# EAGLE library part PENTABIT_? (library hexabitz_connectors)
Hexabitz Pentagon Module Connector Pentagon side length = 17.32mm.
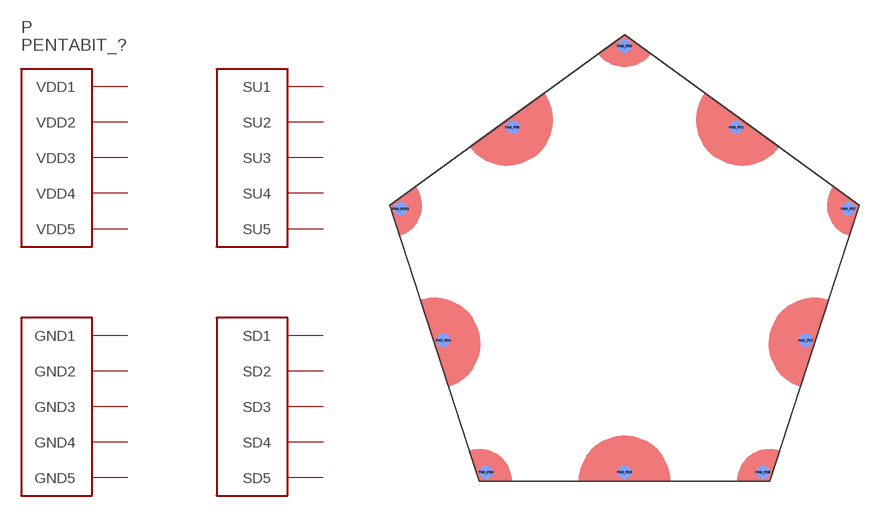
[diagram p12: symbol with the pads of PENTABIT_17.32; footprint PENTABIT_17.32]

Designator prefix P

## PENTABIT_17.32  [PENTABIT_17.32]
PAD_PD1  SD1
PAD_PD2  SD2
PAD_PD3  SD3
PAD_PD4  SD4
PAD_PD5  SD5
PAD_PD6  GND1  pwr
PAD_PD7  GND2  pwr
PAD_PD8  GND3  pwr
PAD_PD9  GND4  pwr
PAD_PD10  GND5  pwr
PAD_PU1  SU1
PAD_PU2  SU2
PAD_PU3  SU3
PAD_PU4  SU4
PAD_PU5  SU5
PAD_PU6  VDD1  pwr
PAD_PU7  VDD2  pwr
PAD_PU8  VDD3  pwr
PAD_PU9  VDD4  pwr
PAD_PU10  VDD5  pwr

## Footprint PENTABIT_17.32 (pad centres in mm)
smd 0.8 x 0.8 bottom: PAD_PD1 6.68,9.2; PAD_PD2 10.81,-3.51; PAD_PD3 0,-11.37; PAD_PD4 -10.81,-3.51; PAD_PD5 -6.68,9.2; PAD_PD6 0,14.05; PAD_PD7 13.36,4.34; PAD_PD8 8.26,-11.37; PAD_PD9 -8.26,-11.37; PAD_PD10 -13.36,4.34
smd 0.8 x 0.8: PAD_PU1 6.68,9.2; PAD_PU2 10.81,-3.51; PAD_PU3 0,-11.37; PAD_PU4 -10.81,-3.51; PAD_PU5 -6.68,9.2; PAD_PU6 0,14.05; PAD_PU7 13.36,4.34; PAD_PU8 8.26,-11.37; PAD_PU9 -8.26,-11.37; PAD_PU10 -13.36,4.34